# Altium footprint library WE-CBF.PcbLib: 2 footprints
Each footprint in its own frame and in the unit in brackets; x right, y up, seen from the top. Pads: shape width x height; smd on the part's side, far side on the other; paste and mask are expansions set on the pad; w line width, h text height; cw(c..) or ccw(c..) is an arc to the next point about the centre after c.
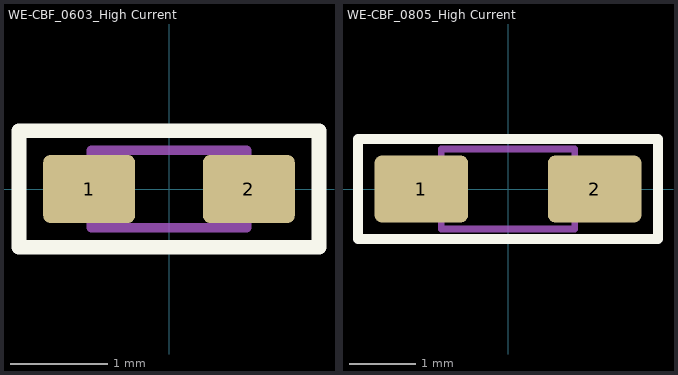
[diagram p0: the footprints below, top view; thin cyan lines are the x and y axes]

## WE-CBF_0603_High Current [mm] "SMD EMI Suppression Ferrite  Bead, body 1.6mmx0.8mm"
height 0.8
pads (2):
  rrect20% 0.95x0.7 smd: 1(-0.825,0) 2(0.825,0)
Top Overlay:
  lines w0.15: -1.55,-0.6 1.55,-0.6 1.55,0.6 -1.55,0.6 -1.55,-0.6
Mechanical 15:
  lines w0.1: -0.8,-0.4 0.8,-0.4 0.8,0.4 -0.8,0.4 -0.8,-0.4
3D body "WE-CBF_0603_CBF.stp": height 0.8, standoff 0, extent -0.8,-0.4 0.8,0.4

## WE-CBF_0805_High Current [mm] "SMD EMI Suppression Ferrite  Bead, body 2.0mmx1.2mm"
height 0.9
pads (2):
  rrect20% 1.4x1 smd: 1(-1.3,0) 2(1.3,0)
Top Overlay:
  lines w0.15: -2.25,-0.75 -2.25,0.75 2.25,0.75 2.25,-0.75 -2.25,-0.75
Mechanical 15:
  lines w0.1: -1,-0.6 -1,0.6 1,0.6 1,-0.6 -1,-0.6
3D body "WE-CBF_0805_CBF.stp": height 0.93, standoff 0.03, extent -1,-0.6 1,0.6